# Altium footprint library PCB - CONNECTOR - HARWIN - HARWIN M20-7820545.PcbLib: 1 footprints
Each footprint in its own frame and in the unit in brackets; x right, y up, seen from the top. Pads: shape width x height; smd on the part's side, far side on the other; paste and mask are expansions set on the pad; w line width, h text height; cw(c..) or ccw(c..) is an arc to the next point about the centre after c.
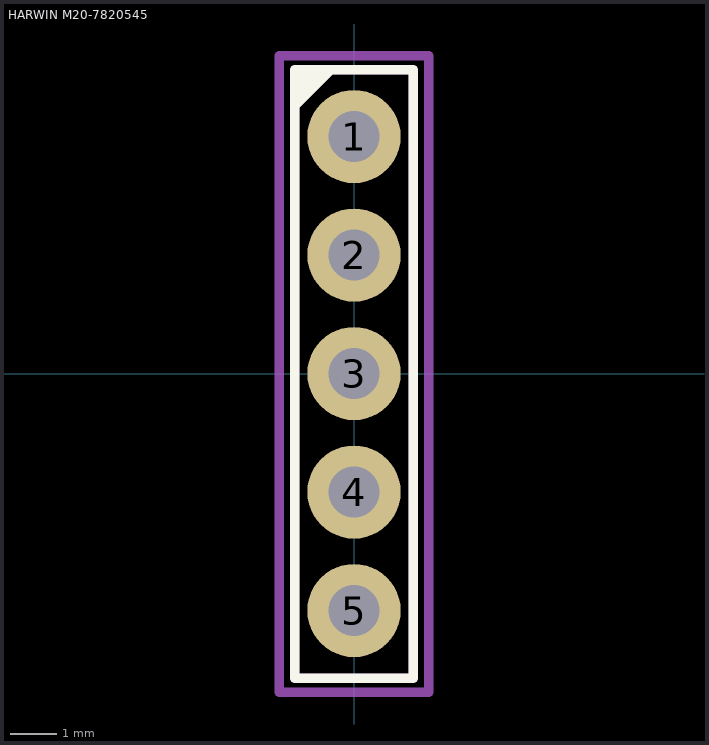
[diagram p0: the footprint, top view; thin cyan lines are the x and y axes]

## HARWIN M20-7820545 [mm] "2.54mm DIL PC TAIL PIN HEADER ASSEMBLY"
height 5
pads (5):
  round 2 hole 1.1: 1(0,5.08) 2(0,2.54) 3(0,0) 4(0,-2.54) 5(0,-5.08)
Top Overlay:
  region: -1.23,6.54 -1.23,5.64 -0.33,6.54
  lines w0.2: -1.27,-6.53 1.27,-6.53 1.27,6.51 -1.27,6.51 -1.27,-6.53
Top Assembly:
  lines w0.2: -0.5,0 0.5,0 ; 0,-0.5 0,0.5 ; -1.27,-6.53 1.27,-6.53 1.27,6.51 -1.27,6.51 -1.27,-6.53
Top Courtyard (Mech15):
  lines w0.2: -1.6,-6.83 1.6,-6.83 1.6,6.81 -1.6,6.81 -1.6,-6.83
3D body "M20-7820542.step": height 8.5, standoff -3, extent -1.25,-6.55 1.25,6.55